# Altium schematic symbol library SD Card.SchLib: 1 symbol
Pins are listed as number, name and electrical type; pins without a type are passive.

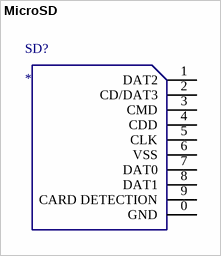
[diagram p0: symbol MicroSD]

## MicroSD
designator SD?
footprint Micro SD
pins: 0 GND, 1 DAT2, 2 CD/DAT3, 3 CMD, 4 CDD, 5 CLK, 6 VSS, 7 DAT0, 8 DAT1, 9 CARD DETECTION